# Altium footprint library PcbLib1.PcbLib: 38 footprints (part 2 of 3)
Each footprint in its own frame and in the unit in brackets; x right, y up, seen from the top. Pads: shape width x height; smd on the part's side, far side on the other; paste and mask are expansions set on the pad; w line width, h text height; cw(c..) or ccw(c..) is an arc to the next point about the centre after c.
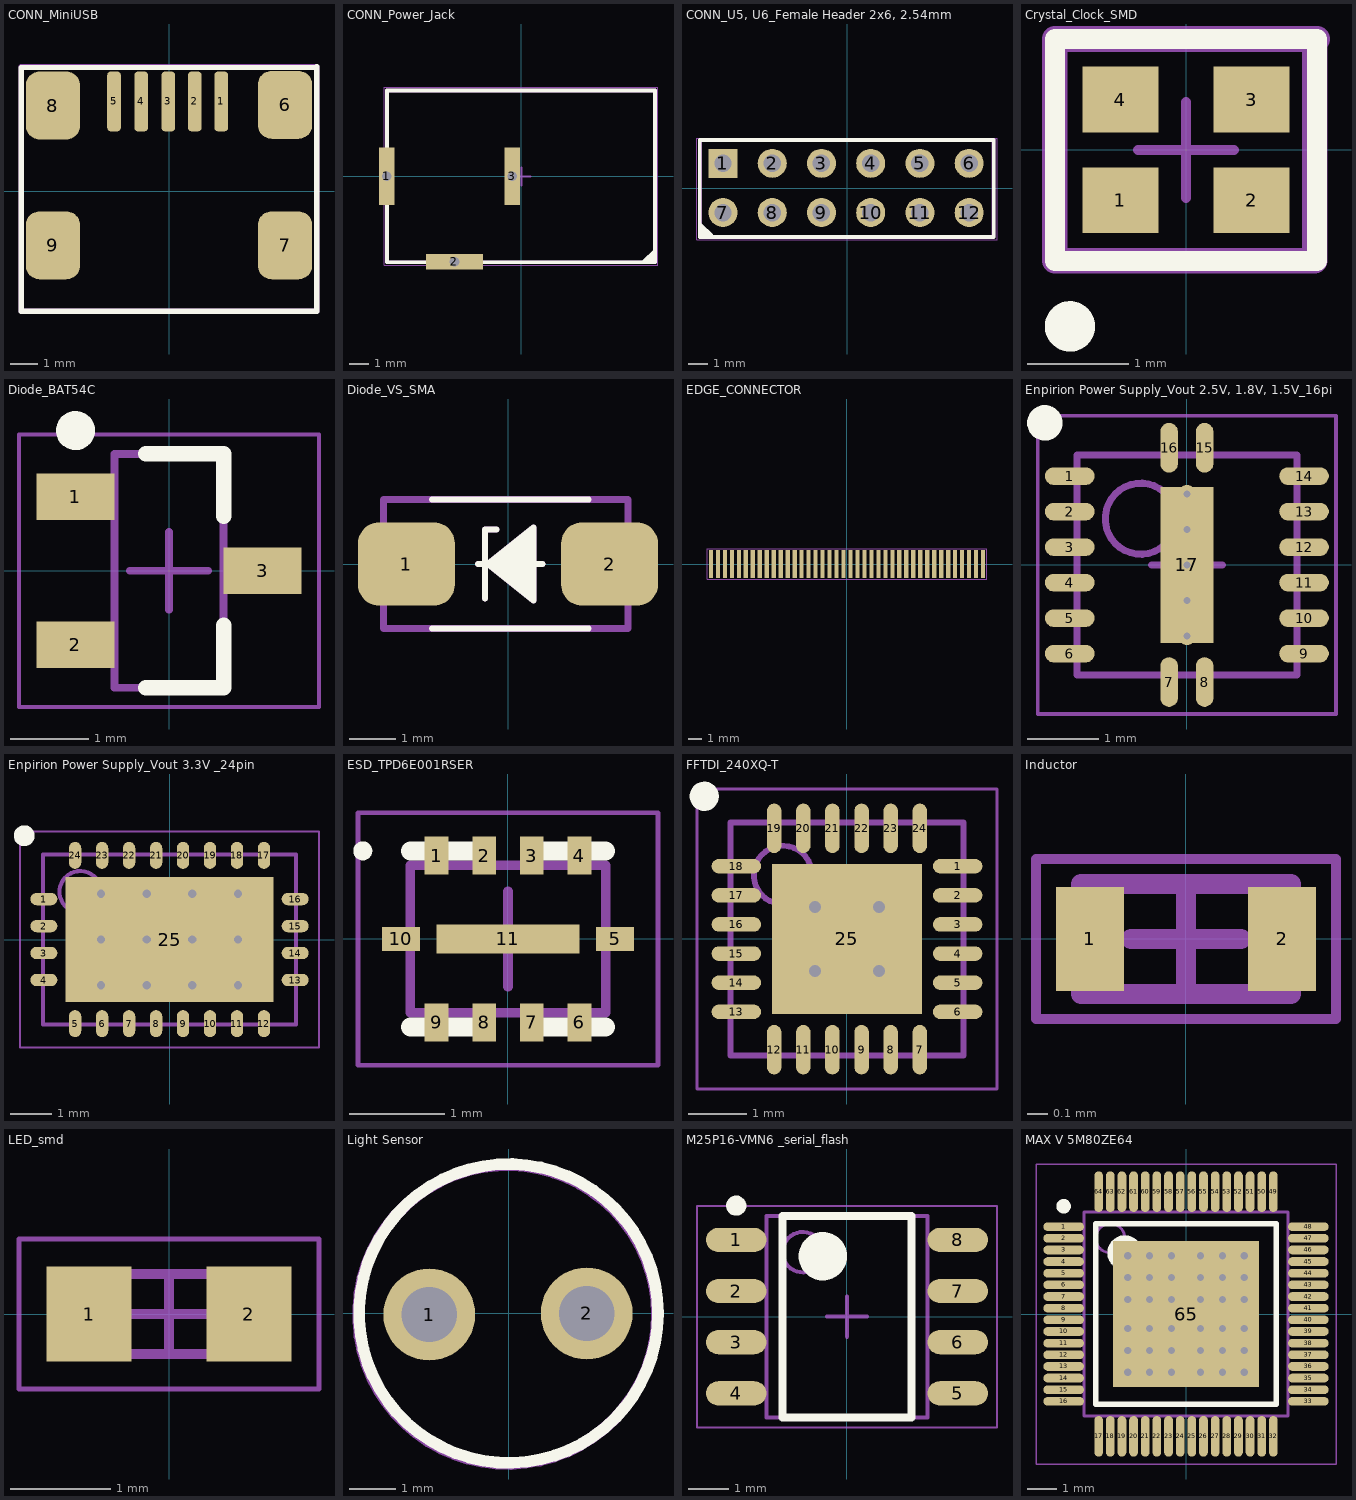
[diagram p1: the footprints below, top view; thin cyan lines are the x and y axes]

## CONN_MiniUSB [mm]
height 3.95
pads (9):
  rrect50% 0.5x2.2 smd mask+0.075: 1(1.925,3.3) 2(0.95,3.3) 3(-0.025,3.3) 4(-1.025,3.3) 5(-2.025,3.3)
  rrect50% 2x2.5 smd mask+0.075: 6(4.275,3.175) 7(4.275,-2) 8(-4.275,3.15) 9(-4.275,-2)
Top Overlay:
  lines w0.2: -5.45,-4.425 -5.45,4.55 5.425,4.55 5.45,4.575 5.45,-4.425 -5.45,-4.425
Mechanical 13:
  lines w0.2: -5.45,-4.425 5.45,-4.425 5.45,4.575 -5.45,4.575 -5.45,-4.425
Mechanical 15:
  lines w0.2: -5.45,-4.425 -5.45,4.575 5.45,4.575 5.45,-4.425 -5.45,-4.425
3D body: height 3.95, standoff 0, extent -5.451,-4.426 5.451,4.576

## CONN_Power_Jack [mm] "3.50mm (0.141\", 1/8\", Mini Plug) - Headphone Phone Jack Stereo Connector Solder"
height 16
pads (3):
  rect 0.8x3 hole 0.5 square unplated: 1(-7.05,0) 3(-0.475,0)
  rect 3x0.8 hole 0.5 square unplated: 2(-3.5,-4.475)
Top Overlay:
  region: 6.5,-4.5 7,-4 7,-4.5
  lines w0.2: -7.025,-4.5 -7.025,4.5 ; -7,-4.5 7,-4.5 7,4.5 -7,4.5 ; 6.45,-4.425 6.95,-3.925
Mechanical 13:
  lines w0.2: -7.025,-4.45 -7.025,4.5 7,4.5 7,-4.5 -6.975,-4.5 -7.025,-4.45
Mechanical 15:
  lines w0.05: -7.175,-4.65 -7.175,4.65 7.15,4.65 7.15,-4.65 -7.175,-4.65
  lines w0.1: -0.475,0 0.475,0 ; 0,-0.475 0,0.475
3D body: height 16, standoff 0, extent -7.125,-4.6 7.1,4.6

## CONN_U5, U6_Female Header 2x6, 2.54mm [mm] "Female Header 2x6, 2.54mm"
height 8.54
pads (12):
  rect 1.5x1.5 hole 0.9 unplated: 1(-6.41,1.275)
  round 1.5 hole 0.9: 2(-3.87,1.275) 3(-1.33,1.275) 4(1.21,1.275) 5(3.75,1.275) 6(6.29,1.275) 8(-3.87,-1.265) 9(-1.33,-1.265) 10(1.21,-1.265) 11(3.75,-1.265) 12(6.29,-1.265)
  round 1.5 hole 0.9 unplated: 7(-6.41,-1.265)
Top Overlay:
  region: -7.575,-1.975 -7.075,-2.475 -7.575,-2.475
  lines w0.2: -7.535,-1.925 -7.035,-2.425 ; -7.61,-2.525 7.56,-2.525 7.56,2.475 -7.61,2.475 -7.61,-2.525
Mechanical 13:
  lines w0.2: -7.6,-2.5 -7.6,2.475 7.55,2.475 7.55,-2.475 7.5,-2.525 -7.575,-2.525 -7.6,-2.5
Mechanical 15:
  lines w0.05: -7.75,-2.675 7.725,-2.675 7.725,2.575 -7.75,2.575 -7.75,-2.675
3D body: height 8.54, standoff 0, extent -7.609,-2.524 7.559,2.474

## Crystal_Clock_SMD [mm] "Crystal Clock -40°C ~ 85°C Surface Mount 4-SMD, No Lead"
height 0.59
pads (4):
  rect 0.75x0.65 smd: 1(-0.65,-0.5) 2(0.65,-0.5) 3(0.65,0.5) 4(-0.65,0.5)
Top Overlay:
  circle w0.25: c-1.15,-1.75 r0.125
  lines w0.2: -1.3,-1.1 1.3,-1.1 1.3,1.1 -1.3,1.1 -1.3,-1.1
Mechanical 15:
  lines w0.1: -0.475,0 0.475,0 ; 0,-0.475 0,0.475
  lines w0.254: 1.275,-1.1 -1.3,-1.1 -1.3,1.1 1.3,1.1 ; 1.275,-1.1 1.275,-1.1 ; 1.275,-1.1 1.275,1.075 ; 1.275,-1.1 1.275,-1.1 ; 1.275,1.075 1.3,1.1 ; 1.275,1.075 1.3,1.1
3D body "ABM11.STEP": height 0.59, standoff 0, extent -1.003,-0.8 1.004,0.8

## Diode_BAT54C [mm] "SOT23, 3-Leads, Body 2,90x2,45mm, Pitch 0,95mm, IPC Medium Density"
height 1.2
pads (3):
  rect 1x0.6 smd: 1(-1.2,0.95) 2(-1.2,-0.95) 3(1.2,0)
Top Overlay:
  circle w0.25: c-1.2,1.8 r0.125
  lines w0.2: -0.3,-1.5 0.7,-1.5 0.7,-0.7 ; -0.3,1.5 0.7,1.5 0.7,0.7
Mechanical 13:
  lines w0.1: -0.7,-1.5 -0.7,1.5 0.7,1.5 0.7,-1.5 -0.7,-1.5
Mechanical 15:
  lines w0.05: -1.925,-1.75 -1.925,1.75 1.925,1.75 1.925,-1.75 -1.925,-1.75
  lines w0.1: -0.5,0 0.5,0 ; 0,-0.5 0,0.5
3D body: height 1.2, standoff 0.1, extent -0.7,-1.5 0.7,1.5

## Diode_VS_SMA [mm] "SMA"
height 2.6
pads (2):
  rrect50% 2.1x1.8 smd: 1(-2.2,0) 2(2.2,0)
Top Overlay:
  region: 0.55,-0.8 0.55,0.8 -0.45,0
  lines w0.127: -1.65,-1.4 1.75,-1.4 ; -1.65,1.4 1.75,1.4 ; -0.65,0 -0.438,0 ; -0.5,-0.75 -0.5,0.75 -0.25,0.75 ; 0.55,0 0.75,0 ; -0.438,0 0.55,-0.79 0.55,0.79 -0.438,0
Mechanical 15:
  region: 0.55,-0.8 0.55,0.8 -0.45,0
  lines w0.127: -0.65,0 -0.438,0 ; -0.5,-0.75 -0.5,0.75 -0.25,0.75 ; 0.55,0 0.75,0 ; -0.438,0 0.55,0.79 0.55,-0.79 -0.438,0
  lines w0.15: -2.7,-1.4 2.6,-1.4 2.6,1.4 -2.7,1.4 -2.7,-1.4
3D body "SMA(DO-214AC).STEP": height 2.6, standoff 0.03, extent -2.75,-1.4 2.75,1.4

## EDGE_CONNECTOR [mm] "40 Position FFC, FPC Connector Contacts, Top 0.020\" (0.50mm) Surface Mount, Right Angle"
height 2
pads (40):
  rect 0.3x2 smd mask+0.05: 1(-9.75,0) 2(-9.25,0) 3(-8.75,0) 4(-8.25,0) 5(-7.75,0) 6(-7.25,0) 7(-6.75,0) 8(-6.25,0) 9(-5.75,0) 10(-5.25,0) 11(-4.75,0) 12(-4.25,0) 13(-3.75,0) 14(-3.25,0) 15(-2.75,0) 16(-2.25,0) 17(-1.75,0) 18(-1.25,0) 19(-0.75,0) 20(-0.25,0) 21(0.25,0) 22(0.75,0) 23(1.25,0) 24(1.75,0) 25(2.25,0) 26(2.75,0) 27(3.25,0) 28(3.75,0) 29(4.25,0) 30(4.75,0) 31(5.25,0) 32(5.75,0) 33(6.25,0) 34(6.75,0) 35(7.25,0) 36(7.75,0) 37(8.25,0) 38(8.75,0) 39(9.25,0) 40(9.75,0)
Mechanical 15:
  lines w0.05: -10,-1.1 10,-1.1 10,1.1 -10,1.1 -10,-1.1

## Enpirion Power Supply_Vout 2.5V, 1.8V, 1.5V_16pin [mm]
height 1.15
pads (17):
  oval 0.7x0.25 smd: 1(-1.65,1.25) 2(-1.65,0.75) 3(-1.65,0.25) 4(-1.65,-0.25) 5(-1.65,-0.75) 6(-1.65,-1.25) 9(1.65,-1.25) 10(1.65,-0.75) 11(1.65,-0.25) 12(1.65,0.25) 13(1.65,0.75) 14(1.65,1.25)
  oval 0.25x0.7 smd: 7(-0.25,-1.65) 8(0.25,-1.65) 15(0.25,1.65) 16(-0.25,1.65)
  rect 0.75x2.2 smd: 17(0,0)
via 0,-1 diameter 0.25 hole 0.1
via 0,-0.5 diameter 0.25 hole 0.1
via 0,0 diameter 0.25 hole 0.1
via 0,1 diameter 0.25 hole 0.1
via 0,0.5 diameter 0.25 hole 0.1
Top Overlay:
  circle w0.25: c-2,2 r0.125
Mechanical 13:
  circle w0.1: c-0.65,0.65 r0.5
  lines w0.1: -1.55,-1.55 1.55,-1.55 1.55,1.55 -1.55,1.55 -1.55,-1.55
Mechanical 15:
  lines w0.05: -2.1,-2.1 2.1,-2.1 2.1,2.1 -2.1,2.1 -2.1,-2.1
  lines w0.1: -0.5,0 0.5,0 ; 0,-0.5 0,0.5
3D body: height 1.15, standoff 0.05, extent -1.55,-1.55 1.55,1.55

## Enpirion Power Supply_Vout 3.3V _24pin [mm]
height 1.15
pads (25):
  oval 0.65x0.3 smd: 1(-3.025,0.975) 2(-3.025,0.325) 3(-3.025,-0.325) 4(-3.025,-0.975) 13(3.025,-0.975) 14(3.025,-0.325) 15(3.025,0.325) 16(3.025,0.975)
  oval 0.3x0.65 smd: 5(-2.275,-2.025) 6(-1.625,-2.025) 7(-0.975,-2.025) 8(-0.325,-2.025) 9(0.325,-2.025) 10(0.975,-2.025) 11(1.625,-2.025) 12(2.275,-2.025) 17(2.275,2.025) 18(1.625,2.025) 19(0.975,2.025) 20(0.325,2.025) 21(-0.325,2.025) 22(-0.975,2.025) 23(-1.625,2.025) 24(-2.275,2.025)
  rect 5x3 smd: 25(0,0)
via -1.65,1.1 diameter 0.5 hole 0.2
via -0.55,1.1 diameter 0.5 hole 0.2
via 0.55,1.1 diameter 0.5 hole 0.2
via 1.65,1.1 diameter 0.5 hole 0.2
via -1.65,0 diameter 0.5 hole 0.2
via -0.55,0 diameter 0.5 hole 0.2
via 0.55,0 diameter 0.5 hole 0.2
via 1.65,0 diameter 0.5 hole 0.2
via -1.65,-1.1 diameter 0.5 hole 0.2
via -0.55,-1.1 diameter 0.5 hole 0.2
via 0.55,-1.1 diameter 0.5 hole 0.2
via 1.65,-1.1 diameter 0.5 hole 0.2
Top Overlay:
  circle w0.25: c-3.5,2.5 r0.125
Mechanical 13:
  circle w0.1: c-2.15,1.15 r0.5
  lines w0.1: -3.05,-2.05 3.05,-2.05 3.05,2.05 -3.05,2.05 -3.05,-2.05
Mechanical 15:
  lines w0.05: -3.6,-2.6 3.6,-2.6 3.6,2.6 -3.6,2.6 -3.6,-2.6
  lines w0.1: -0.5,0 0.5,0 ; 0,-0.5 0,0.5
3D body "Enpirion Power Supply_Vout 3.3V _24pin.step": height 1.15, standoff 0, extent -3.1,-2.1 3.1,2.1

## ESD_TPD6E001RSER [mm] "QFN, 10-Leads, Body 2,00x1,50mm, Pitch 0,50mm, Thermal Pad 1,50x0,30mm, IPC Medium Density QFN10-RSE"
height 0.6
pads (11):
  rect 0.25x0.4 smd: 1(-0.75,0.875) 2(-0.25,0.875) 3(0.25,0.875) 4(0.75,0.875) 6(0.75,-0.875) 7(0.25,-0.875) 8(-0.25,-0.875) 9(-0.75,-0.875)
  rect 0.4x0.25 smd: 5(1.125,0) 10(-1.125,0)
  rect 1.5x0.3 smd: 11(0,0)
Top Overlay:
  circle w0.1: c-1.525,0.925 r0.05
  lines w0.2: -1.025,-0.925 -0.375,-0.925 ; -1.025,0.925 -0.375,0.925 ; 0.375,-0.925 1.025,-0.925 ; 0.375,0.925 1.025,0.925
Mechanical 13:
  lines w0.1: -1.025,-0.775 1.025,-0.775 1.025,0.775 -1.025,0.775 -1.025,-0.775
Mechanical 15:
  lines w0.05: -1.575,-1.325 1.575,-1.325 1.575,1.325 -1.575,1.325 -1.575,-1.325
  lines w0.1: -0.5,0 0.5,0 ; 0,-0.5 0,0.5
3D body: height 0.6, standoff 0.05, extent -1.025,-0.775 1.025,0.775

## FFTDI_240XQ-T [mm]
height 0.8
pads (25):
  oval 0.85x0.25 smd: 1(1.9,1.25) 2(1.9,0.75) 3(1.9,0.25) 4(1.9,-0.25) 5(1.9,-0.75) 6(1.9,-1.25) 13(-1.9,-1.25) 14(-1.9,-0.75) 15(-1.9,-0.25) 16(-1.9,0.25) 17(-1.9,0.75) 18(-1.9,1.25)
  oval 0.25x0.85 smd: 7(1.25,-1.9) 8(0.75,-1.9) 9(0.25,-1.9) 10(-0.25,-1.9) 11(-0.75,-1.9) 12(-1.25,-1.9) 19(-1.25,1.9) 20(-0.75,1.9) 21(-0.25,1.9) 22(0.25,1.9) 23(0.75,1.9) 24(1.25,1.9)
  rect 2.58x2.58 smd: 25(0,0)
via -0.55,0.55 diameter 0.5 hole 0.2
via 0.55,0.55 diameter 0.5 hole 0.2
via -0.55,-0.55 diameter 0.5 hole 0.2
via 0.55,-0.55 diameter 0.5 hole 0.2
Top Overlay:
  circle w0.25: c-2.45,2.45 r0.125
Mechanical 13:
  circle w0.1: c-1.1,1.1 r0.5
  lines w0.1: -2,-2 -2,2 2,2 2,-2 -2,-2
Mechanical 15:
  lines w0.05: -2.575,-2.575 -2.575,2.575 2.575,2.575 2.575,-2.575 -2.575,-2.575
  lines w0.1: -0.5,0 0.5,0 ; 0,-0.5 0,0.5
3D body: height 0.8, standoff 0.05, extent -2,-2 2,2

## Inductor [mm] "Chip Inductor, 2-Leads, Body 1,00x0,50mm, IPC High Density"
height 0.55
pads (2):
  rect 0.34x0.52 smd: 1(-0.48,0) 2(0.48,0)
Mechanical 13:
  lines w0.1: -0.525,-0.275 -0.525,0.275 0.525,0.275 0.525,-0.275 -0.525,-0.275
Mechanical 15:
  lines w0.05: -0.75,-0.4 -0.75,0.4 0.75,0.4 0.75,-0.4 -0.75,-0.4
  lines w0.1: -0.275,0 0.275,0 ; 0,-0.275 0,0.275
3D body "INDC1005X06L.step": height 0.55, standoff 0, extent -0.525,-0.275 0.525,0.275

## LED_smd [mm]
height 0.3
pads (2):
  rect 0.85x0.95 smd: 1(-0.8,0) 2(0.8,0)
Mechanical 13:
  lines w0.1: -0.8,-0.4 0.8,-0.4 0.8,0.4 -0.8,0.4 -0.8,-0.4
Mechanical 15:
  lines w0.05: -1.5,-0.75 1.5,-0.75 1.5,0.75 -1.5,0.75 -1.5,-0.75
  lines w0.1: -0.4,0 0.4,0 ; 0,-0.4 0,0.4
3D body: height 0.3, standoff 0, extent 0.45,-0.4 0.8,0.4
3D body: height 0.3, standoff 0, extent -0.8,-0.4 -0.45,0.4
3D body: height 0.3, standoff 0, extent -0.45,-0.4 0.45,0.4

## Light Sensor [mm] "Photo Resistor PGM5526"
height 4
pads (2):
  round 2 hole 1.2: 1(-1.725,-0.025) 2(1.7,0)
Top Overlay:
  circle w0.254: c0,0 r3.25
Mechanical 13:
  circle w0.254: c-0.025,-0.025 r3.25
3D body: height 4, standoff 0, extent -3.249,-3.249 3.249,3.249

## M25P16-VMN6 _serial_flash [mm] "SOIC, 8-Leads, Body 4,95x3,95mm, Pitch 1,27mm, IPC Medium Density"
height 1.75
pads (8):
  oval 1.5x0.6 smd: 1(-2.75,1.905) 2(-2.75,0.635) 3(-2.75,-0.635) 4(-2.75,-1.905) 5(2.75,-1.905) 6(2.75,-0.635) 7(2.75,0.635) 8(2.75,1.905)
Top Overlay:
  circle w0.6: c-0.6,1.5 r0.3
  circle w0.25: c-2.75,2.755 r0.125
  lines w0.2: -1.6,-2.5 1.6,-2.5 1.6,2.5 -1.6,2.5 -1.6,-2.5
Mechanical 13:
  circle w0.1: c-1.1,1.6 r0.5
  lines w0.1: -2,-2.5 2,-2.5 2,2.5 -2,2.5 -2,-2.5
Mechanical 15:
  lines w0.05: -3.725,-2.75 3.725,-2.75 3.725,2.75 -3.725,2.75 -3.725,-2.75
  lines w0.1: -0.5,0 0.5,0 ; 0,-0.5 0,0.5
3D body: height 1.75, standoff 0.25, extent -2,-2.5 2,2.5

## MAX V 5M80ZE64 [mm] "TSQFP, 64-Leads, Body 7,00x7,00mm, Pitch 0,40mm, IPC Medium Density"
height 1.2
pads (65):
  oval 1.4x0.3 smd: 1(-4.2,3) 2(-4.2,2.6) 3(-4.2,2.2) 4(-4.2,1.8) 5(-4.2,1.4) 6(-4.2,1) 7(-4.2,0.6) 8(-4.2,0.2) 9(-4.2,-0.2) 10(-4.2,-0.6) 11(-4.2,-1) 12(-4.2,-1.4) 13(-4.2,-1.8) 14(-4.2,-2.2) 15(-4.2,-2.6) 16(-4.2,-3) 33(4.2,-3) 34(4.2,-2.6) 35(4.2,-2.2) 36(4.2,-1.8) 37(4.2,-1.4) 38(4.2,-1) 39(4.2,-0.6) 40(4.2,-0.2) 41(4.2,0.2) 42(4.2,0.6) 43(4.2,1) 44(4.2,1.4) 45(4.2,1.8) 46(4.2,2.2) 47(4.2,2.6) 48(4.2,3)
  oval 0.3x1.4 smd: 17(-3,-4.2) 18(-2.6,-4.2) 19(-2.2,-4.2) 20(-1.8,-4.2) 21(-1.4,-4.2) 22(-1,-4.2) 23(-0.6,-4.2) 24(-0.2,-4.2) 25(0.2,-4.2) 26(0.6,-4.2) 27(1,-4.2) 28(1.4,-4.2) 29(1.8,-4.2) 30(2.2,-4.2) 31(2.6,-4.2) 32(3,-4.2) 49(3,4.2) 50(2.6,4.2) 51(2.2,4.2) 52(1.8,4.2) 53(1.4,4.2) 54(1,4.2) 55(0.6,4.2) 56(0.2,4.2) 57(-0.2,4.2) 58(-0.6,4.2) 59(-1,4.2) 60(-1.4,4.2) 61(-1.8,4.2) 62(-2.2,4.2) 63(-2.6,4.2) 64(-3,4.2)
  rect 5x5 smd: 65(0,0)
via 0.5,0.5 diameter 0.5 hole 0.25
via 0.5,1.25 diameter 0.5 hole 0.25
via 0.5,2 diameter 0.5 hole 0.25
via 1.25,2 diameter 0.5 hole 0.25
via 1.25,1.25 diameter 0.5 hole 0.25
via 1.25,0.5 diameter 0.5 hole 0.25
via 2,0.5 diameter 0.5 hole 0.25
via 2,1.25 diameter 0.5 hole 0.25
via 2,2 diameter 0.5 hole 0.25
via 0.5,-0.5 diameter 0.5 hole 0.25
via 1.25,-0.5 diameter 0.5 hole 0.25
via 2,-0.5 diameter 0.5 hole 0.25
via 2,-1.25 diameter 0.5 hole 0.25
via 1.25,-1.25 diameter 0.5 hole 0.25
via 0.5,-1.25 diameter 0.5 hole 0.25
via 0.5,-2 diameter 0.5 hole 0.25
via 1.25,-2 diameter 0.5 hole 0.25
via 2,-2 diameter 0.5 hole 0.25
via -0.5,-0.5 diameter 0.5 hole 0.25
via -0.5,-1.25 diameter 0.5 hole 0.25
via -0.5,-2 diameter 0.5 hole 0.25
via -1.25,-2 diameter 0.5 hole 0.25
via -1.25,-1.25 diameter 0.5 hole 0.25
via -1.25,-0.5 diameter 0.5 hole 0.25
via -2,-0.5 diameter 0.5 hole 0.25
via -2,-1.25 diameter 0.5 hole 0.25
via -2,-2 diameter 0.5 hole 0.25
via -2,2 diameter 0.5 hole 0.25
via -1.25,2 diameter 0.5 hole 0.25
via -0.5,2 diameter 0.5 hole 0.25
via -0.5,1.25 diameter 0.5 hole 0.25
via -1.25,1.25 diameter 0.5 hole 0.25
via -2,1.25 diameter 0.5 hole 0.25
via -2,0.5 diameter 0.5 hole 0.25
via -1.25,0.5 diameter 0.5 hole 0.25
via -0.5,0.5 diameter 0.5 hole 0.25
Top Overlay:
  circle w0.25: c-4.2,3.7 r0.125
  circle w0.6: c-2.1,2.1 r0.3
  lines w0.2: -3.1,-3.1 -3.1,3.1 3.1,3.1 3.1,-3.1 -3.1,-3.1
Mechanical 13:
  circle w0.1: c-2.6,2.6 r0.5
  lines w0.1: -3.5,-3.5 -3.5,3.5 3.5,3.5 3.5,-3.5 -3.5,-3.5
Mechanical 15:
  lines w0.05: -5.15,-5.15 -5.15,5.15 5.15,5.15 5.15,-5.15 -5.15,-5.15
  lines w0.1: -0.5,0 0.5,0 ; 0,-0.5 0,0.5
3D body: height 1.2, standoff 0.15, extent -3.5,-3.5 3.5,3.5